# EAGLE library part HA5 (library original)
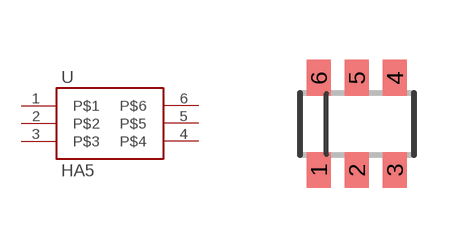
[diagram p1: symbol with the pads of SOT23-6; footprint SOT23-6]

Designator prefix U

## HA5SOT23-6  [SOT23-6]
1  P$1
2  P$2
3  P$3
4  P$4
5  P$5
6  P$6

## Footprint SOT23-6 (pad centres in mm)
smd 0.6 x 0.9: 1 -0.95,-1.15; 2 0,-1.15; 3 0.95,-1.15; 4 0.95,1.15; 5 0,1.15; 6 -0.95,1.15